# Altium schematic symbol library 74LVC1G08QSE-7.SchLib: 1 symbol
Pins are listed as number, name and electrical type; pins without a type are passive.

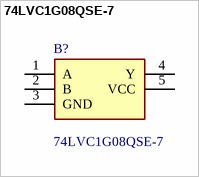
[diagram p0: symbol 74LVC1G08QSE-7]

## 74LVC1G08QSE-7
designator B?
Logic Gates Logic LVC 1 Gate SOT353 T&R 3K; Manufacturer_Name: Diodes Incorporated; Geometry.Height: 1.1mm; Mouser Part Number: 621-74LVC1G08QSE-7; Mouser Price/Stock: https://www.mouser.co.uk/ProductDetail/Diodes-Incorporated/74LVC1G08QSE-7?qs=P1JMDcb91o6ocAdFec%252BEzw%3D%3D; Manufacturer_Part_Number: 74LVC1G08QSE-7; Datasheet Link: https://www.mouser.in/datasheet/2/115/DIOD_S_A0010762531_1-2543394.pdf
footprint SOT65P210X110-5N
pins: 1 A, 2 B, 3 GND, 4 Y, 5 VCC